# Altium footprint library RB751V40T1G.PcbLib: 3 footprints
Each footprint in its own frame and in the unit in brackets; x right, y up, seen from the top. Pads: shape width x height; smd on the part's side, far side on the other; paste and mask are expansions set on the pad; w line width, h text height; cw(c..) or ccw(c..) is an arc to the next point about the centre after c.
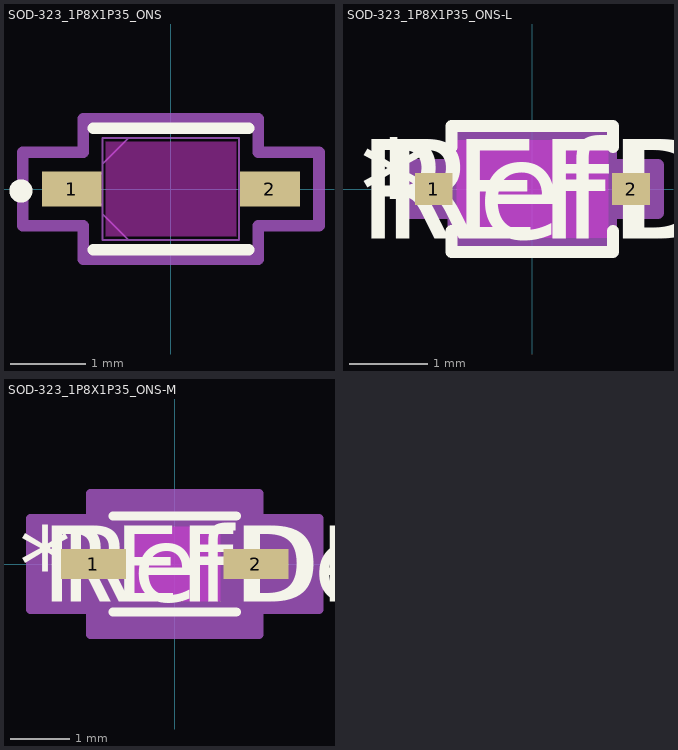
[diagram p0: the footprints below, top view; thin cyan lines are the x and y axes]

## SOD-323_1P8X1P35_ONS [mil]
pads (2):
  rect 31x18 smd paste+0 mask+0: 1(-51.5,0) 2(51.5,0)
Top Overlay:
  circle w10: c-78,-1 r1
  lines w6: -40.5,-31.5 40.5,-31.5 ; -40.5,31.5 40.5,31.5
Keep-Out Layer:
  region: -34,-24.5 -34,24.5 34,24.5 34,-24.5
Mechanical 13:
  lines w1: -35.5,-13.25 -22.25,-26.5 ; -35.5,13.25 -22.25,26.5 ; -53,-8 -35.5,-8 -35.5,8 -53,8 -53,-8 ; -35.5,-26.5 -35.5,26.5 35.5,26.5 35.5,-26.5 -35.5,-26.5 ; 35.5,-8 53,-8 53,8 35.5,8 35.5,-8
Mechanical 15:
  lines w6: -77,-19 -45.5,-19 -45.5,-36.5 45.5,-36.5 45.5,-19 77,-19 77,19 45.5,19 45.5,36.5 -45.5,36.5 -45.5,19 -77,19 -77,-19
3D body "SOD-323_1P8X1P35_ONS.step": height 39.09, standoff 0, extent -52.99,-26.5 52.99,26.5

## SOD-323_1P8X1P35_ONS-L [mil]
pads (2):
  rect 19x16 smd paste+0 mask+0: 1(-49.5,0) 2(49.5,0)
Top Overlay:
  lines w6: -40.5,-21.1 -40.5,-31.5 40.5,-31.5 40.5,-21.1 ; -40.5,21.1 -40.5,31.5 40.5,31.5 40.5,21.1
  text "REFDES" at -87.5,-25 h50
  text "*" at -86.5,-25 h50
  text "RefDes" at -75,-25 h50
Keep-Out Layer:
  region: -38,-24.5 -38,24.5 38,24.5 38,-24.5
Mechanical 13:
  lines w1: -35.5,-13.25 -22.25,-26.5 ; -35.5,13.25 -22.25,26.5 ; -53,-8 -53,8 -35.5,8 -35.5,-8 -53,-8 ; -35.5,-26.5 35.5,-26.5 35.5,26.5 -35.5,26.5 -35.5,-26.5 ; 35.5,-8 35.5,8 53,8 53,-8 35.5,-8
  text "*" at -38,-25 h50
  text "RefDes2" at -87.5,-25 h50
Mechanical 15:
  region: -39.5,-12 -63,-12 -63,12 -39.5,12 -39.5,30.5 39.5,30.5 39.5,12 63,12 63,-12 39.5,-12 39.5,-30.5 -39.5,-30.5
  lines w6: -63,-12 -63,12 -39.5,12 -39.5,30.5 39.5,30.5 39.5,12 63,12 63,-12 39.5,-12 39.5,-30.5 -39.5,-30.5 -39.5,-12 -63,-12
3D body "SOD-323_1P8X1P35_ONS.step": height 39.09, standoff 0, extent -52.99,-26.5 52.99,26.5

## SOD-323_1P8X1P35_ONS-M [mil]
pads (2):
  rect 43x20 smd paste+0 mask+0: 1(-53.5,0) 2(53.5,0)
Top Overlay:
  lines w6: -40.5,-31.5 40.5,-31.5 ; -40.5,31.5 40.5,31.5
  text "REFDES" at -87.5,-25 h50
  text "*" at -102.5,-25 h50
  text "RefDes" at -75,-25 h50
Keep-Out Layer:
  region: -30,-24.5 -30,24.5 30,24.5 30,-24.5
Mechanical 13:
  lines w1: -35.5,-13.25 -22.25,-26.5 ; -35.5,13.25 -22.25,26.5 ; -53,-8 -53,8 -35.5,8 -35.5,-8 -53,-8 ; -35.5,-26.5 35.5,-26.5 35.5,26.5 -35.5,26.5 -35.5,-26.5 ; 35.5,-8 35.5,8 53,8 53,-8 35.5,-8
  text "*" at -38,-25 h50
  text "RefDes2" at -87.5,-25 h50
Mechanical 15:
  region: -55.5,-30 -95,-30 -95,30 -55.5,30 -55.5,46.5 55.5,46.5 55.5,30 95,30 95,-30 55.5,-30 55.5,-46.5 -55.5,-46.5
  lines w6: -95,-30 -95,30 -55.5,30 -55.5,46.5 55.5,46.5 55.5,30 95,30 95,-30 55.5,-30 55.5,-46.5 -55.5,-46.5 -55.5,-30 -95,-30
3D body "SOD-323_1P8X1P35_ONS.step": height 39.09, standoff 0, extent -52.99,-26.5 52.99,26.5